# Altium footprint library WiirdFlex.PcbLib: 79 footprints (part 2 of 5)
Each footprint in its own frame and in the unit in brackets; x right, y up, seen from the top. Pads: shape width x height; smd on the part's side, far side on the other; paste and mask are expansions set on the pad; w line width, h text height; cw(c..) or ccw(c..) is an arc to the next point about the centre after c.
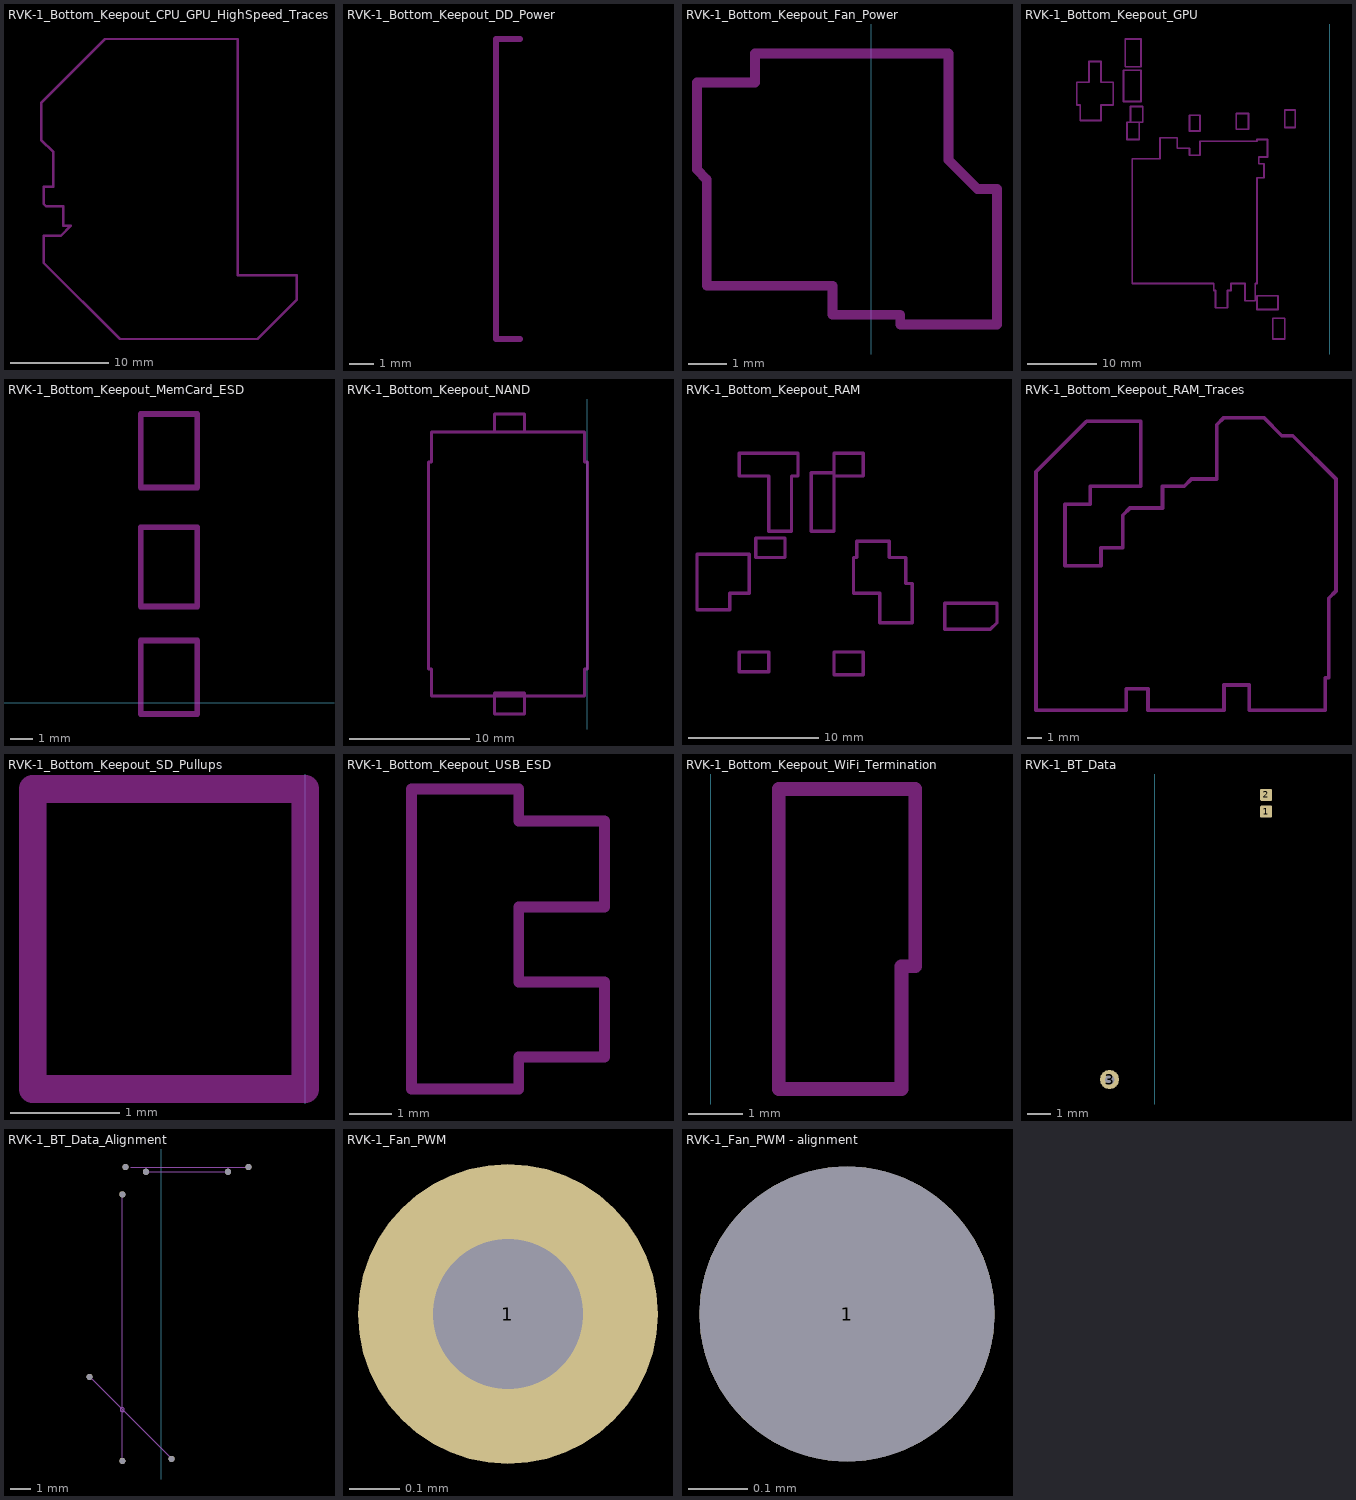
[diagram p1: the footprints below, top view; thin cyan lines are the x and y axes]

## RVK-1_Bottom_Keepout_CPU_GPU_HighSpeed_Traces [mm] "Keepout area for high-speed traces between CPU and GPU"
Keep-Out Layer:
  lines w0.254: -52,26.25 -52,30 -45.5,36.5 -32,36.5 -32,12.5 -26,12.5 -26,10 -30,6 -44,6 -51.75,13.75 -51.75,16.5 -50,16.5 -49,17.5 -49.75,17.5 -49.75,19.5 -51.5,19.5 -51.75,19.75 -51.75,21.5 -50.75,21.5 -50.75,25 -52,26.25

## RVK-1_Bottom_Keepout_DD_Power [mm] "keepout area for a bit of stuff related to disk drive power conditioning"
Keep-Out Layer:
  lines w0.254: 11.25,70.5 10.25,70.5 10.25,83 11.25,83

## RVK-1_Bottom_Keepout_Fan_Power [mm] "keepout area for fan control and power components"
Keep-Out Layer:
  lines w0.254: -4.5,-8.25 -4.25,-8.5 -4.25,-11.25 -1,-11.25 -1,-12 0.75,-12 0.75,-12.25 3.25,-12.25 3.25,-8.75 2.75,-8.75 2,-8 2,-5.25 -3,-5.25 -3,-6 -4.5,-6 -4.5,-8.25

## RVK-1_Bottom_Keepout_GPU [mm] "Keep-out area for Wii bottom side of GPU, including related support components"
Keep-Out Layer:
  lines w0.254: -36.5,40.5 -36.5,43.75 -34.75,43.75 -34.75,46.75 -33,46.75 -33,43.75 -31.25,43.75 -31.25,40.5 -33,40.5 -33,38.25 -36,38.25 -36,40.5 -36.5,40.5 ; -29.75,41 -27.25,41 -27.25,45.5 -29.75,45.5 -29.75,41 ; -29.5,46 -27.25,46 -27.25,50 -29.5,50 -29.5,46 ; -29.25,35.5 -27.5,35.5 -27.5,38 -29.25,38 -29.25,35.5 ; -28.75,38 -27,38 -27,40.25 -28.75,40.25 -28.75,38 ; -28.5,14.75 -28.5,32.75 -24.5,32.75 -24.5,35.75 -22,35.75 -22,34.25 -20.25,34.25 -20.25,33.25 -18.75,33.25 -18.75,35.25 -10.5,35.25 -10.5,35.5 -9,35.5 -9,33 -10.25,33 -10.25,32 -9.5,32 -9.5,30 -10.5,30 -10.5,14.75 -10.75,14.75 -10.75,12.25 -12.25,12.25 -12.25,14.75 -14.25,14.75 -14.25,13.75 -14.75,13.75 -14.75,11.25 -16.5,11.25 -16.5,13.75 -16.75,13.75 -16.75,14.75 -28.5,14.75 ; -20.25,36.75 -20.25,39 -18.75,39 -18.75,36.75 -20.25,36.75 ; -13.5,37 -13.5,39.25 -11.75,39.25 -11.75,37 -13.5,37 ; -10.5,11 -7.5,11 -7.5,13 -10.5,13 -10.5,11 ; -8.25,6.75 -8.25,9.75 -6.5,9.75 -6.5,6.75 -8.25,6.75 ; -6.5,37.25 -6.5,39.75 -5,39.75 -5,37.25 -6.5,37.25

## RVK-1_Bottom_Keepout_MemCard_ESD [mm] "Keepout area for GC Memory Card ESD-protection diode arrays (DA1, DA2, DA4)"
Keep-Out Layer:
  lines w0.254: 6.25,-0.5 8.75,-0.5 8.75,2.75 6.25,2.75 6.25,-0.5 ; 6.25,4.25 8.75,4.25 8.75,7.75 6.25,7.75 6.25,4.25 ; 6.25,9.5 8.75,9.5 8.75,12.75 6.25,12.75 6.25,9.5

## RVK-1_Bottom_Keepout_NAND [mm]
Keep-Out Layer:
  lines w0.254: -13.25,63.25 -13.25,80.5 -13,80.5 -13,83 -0.25,83 -0.25,80.5 0,80.5 0,63.25 -0.25,63.25 -0.25,61 -13,61 -13,63.25 -13.25,63.25 ; -7.75,59.5 -5.25,59.5 -5.25,61.25 -7.75,61.25 -7.75,59.5 ; -7.75,83 -5.25,83 -5.25,84.5 -7.75,84.5 -7.75,83

## RVK-1_Bottom_Keepout_RAM [mm] "keepout area for RAM-related support components (power conditioning, mainly)"
Keep-Out Layer:
  lines w0.254: -24.5,47.5 -24.5,51.75 -20.5,51.75 -20.5,48.75 -22,48.75 -22,47.5 -24.5,47.5 ; -21.25,42.75 -21.25,44.25 -19,44.25 -19,42.75 -21.25,42.75 ; -21.25,57.75 -19,57.75 -19,53.5 -17.25,53.5 -17.25,57.75 -16.75,57.75 -16.75,59.5 -21.25,59.5 -21.25,57.75 ; -20,51.5 -20,53 -17.75,53 -17.75,51.5 -20,51.5 ; -15.75,53.5 -14,53.5 -14,58 -15.75,58 -15.75,53.5 ; -14,42.5 -14,44.25 -11.75,44.25 -11.75,42.5 -14,42.5 ; -14,57.75 -11.75,57.75 -11.75,59.5 -14,59.5 -14,57.75 ; -12.5,48.75 -10.5,48.75 -10.5,46.5 -8,46.5 -8,49.5 -8.5,49.5 -8.5,51.5 -9.75,51.5 -9.75,52.75 -12.25,52.75 -12.25,51.5 -12.5,51.5 -12.5,48.75 ; -5.5,46 -2,46 -1.5,46.5 -1.5,48 -5.5,48 -5.5,46

## RVK-1_Bottom_Keepout_RAM_Traces [mm] "keepout area for high-speed RAM traces"
Keep-Out Layer:
  lines w0.254: -20.5,51 -20.5,51 ; -20.5,51 -20,51.5 -17.75,51.5 -17.75,53 -16.25,53 -15.75,53.5 -14,53.5 -14,57.25 -13.5,57.75 -11.75,57.75 -10.75,57.75 -9.5,56.5 -8.75,56.5 -5.75,53.5 -5.75,45.75 -6.25,45.25 -6.25,39.75 -6.5,39.75 -6.5,37.5 -11.75,37.5 -11.75,39.25 -13.5,39.25 -13.5,37.5 -18.75,37.5 -18.75,39 -20.25,39 -20.25,37.5 -26.5,37.5 -26.5,54 -23,57.5 -19.25,57.5 -19.25,53 -22.75,53 -22.75,51.75 -24.5,51.75 -24.5,47.5 -22,47.5 -22,48.75 -20.5,48.75 -20.5,51

## RVK-1_Bottom_Keepout_SD_Pullups [mm] "Keep-out area for SD card detect and write protect pull-up resistors (R200, R201)"
Keep-Out Layer:
  lines w0.254: -2.5,26 -2.5,28.75 0,28.75 0,26 -2.5,26

## RVK-1_Bottom_Keepout_Sensor_bar_power [mm] "keepout area for some components related to sensor bar power"

## RVK-1_Bottom_Keepout_USB_ESD [mm] "Keepout area for USB ESD protection diodes on bottom side"
Keep-Out Layer:
  lines w0.254: 5,-11.5 7.5,-11.5 7.5,-10.75 9.5,-10.75 9.5,-9 7.5,-9 7.5,-7.25 9.5,-7.25 9.5,-5.25 7.5,-5.25 7.5,-4.5 5,-4.5 5,-11.5

## RVK-1_Bottom_Keepout_WiFi_Termination [mm] "Keepout area for WiFi termination resistors (R212, R213, RA50) on bottom side of Wii"
Keep-Out Layer:
  lines w0.254: 1.25,26.75 1.25,32.25 3.75,32.25 3.75,29 3.5,29 3.5,26.75 1.25,26.75

## RVK-1_BT_Data [mm]
pads (3):
  rrect20% 0.5x0.5 smd: 1(4.7,36.3) 2(4.7,37)
  round 0.8 hole 0.4: 3(-1.9,25)

## RVK-1_BT_Data_Alignment [mm]
pads (8):
  round 0.3 hole 0.3 unplated mask+0: 1(-0.75,36.6) 1(3.25,36.6) 2(-1.75,36.83) 2(4.25,36.83) 3(-3.5,26.6) 3(-1.9,22.5) 3(-1.9,35.5) 3(0.5,22.6)
Mechanical 1:
  circle w0.05: c-1.9,25 r0.1
  lines w0.05: -3.575,26.675 0.5,22.6 ; -1.9,22.5 -1.9,35.5 ; -1.5,36.83 4.25,36.83 ; -0.75,36.6 3.25,36.6

## RVK-1_Fan_PWM [mm] "Via controlling fan from GPU.  Don't know if it's actually PWM or not, just guessing."
pads (1):
  round 0.6 hole 0.3: 1(-12.55,12.9)

## RVK-1_Fan_PWM - alignment [mm] "Via controlling fan from GPU.  Don't know if it's actually PWM or not, just guessing."
pads (1):
  round 0.5 hole 0.5 unplated: 1(-12.55,12.9)